# Altium footprint library Con Docking Station.PcbLib: 2 footprints
Each footprint in its own frame and in the unit in brackets; x right, y up, seen from the top. Pads: shape width x height; smd on the part's side, far side on the other; paste and mask are expansions set on the pad; w line width, h text height; cw(c..) or ccw(c..) is an arc to the next point about the centre after c.
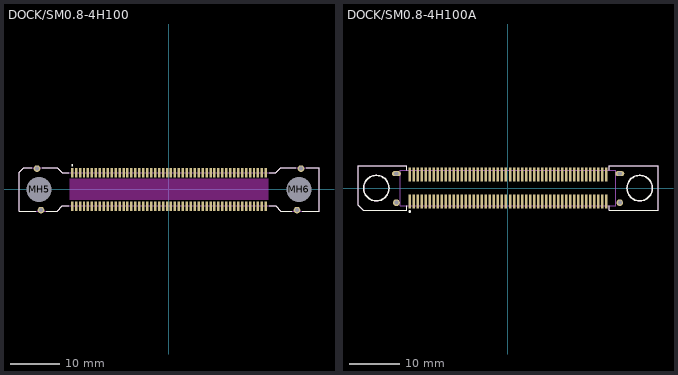
[diagram p0: the footprints below, top view; thin cyan lines are the x and y axes]

## DOCK/SM0.8-4H100 [mm] "Connector; Docking Station, Receptacle; 100 Position; Vertical"
height 3.6
pads (106):
  rect 0.5x1.9 smd: 1(-19.6,3.4) 2(-19.6,-3.4) 3(-18.8,3.4) 4(-18.8,-3.4) 5(-18,3.4) 6(-18,-3.4) 7(-17.2,3.4) 8(-17.2,-3.4) 9(-16.4,3.4) 10(-16.4,-3.4) 11(-15.6,3.4) 12(-15.6,-3.4) 13(-14.8,3.4) 14(-14.8,-3.4) 15(-14,3.4) 16(-14,-3.4) 17(-13.2,3.4) 18(-13.2,-3.4) 19(-12.4,3.4) 20(-12.4,-3.4) 21(-11.6,3.4) 22(-11.6,-3.4) 23(-10.8,3.4) 24(-10.8,-3.4) 25(-10,3.4) 26(-10,-3.4) 27(-9.2,3.4) 28(-9.2,-3.4) 29(-8.4,3.4) 30(-8.4,-3.4) 31(-7.6,3.4) 32(-7.6,-3.4) 33(-6.8,3.4) 34(-6.8,-3.4) 35(-6,3.4) 36(-6,-3.4) 37(-5.2,3.4) 38(-5.2,-3.4) 39(-4.4,3.4) 40(-4.4,-3.4) 41(-3.6,3.4) 42(-3.6,-3.4) 43(-2.8,3.4) 44(-2.8,-3.4) 45(-2,3.4) 46(-2,-3.4) 47(-1.2,3.4) 48(-1.2,-3.4) 49(-0.4,3.4) 50(-0.4,-3.4) 51(0.4,3.4) 52(0.4,-3.4) 53(1.2,3.4) 54(1.2,-3.4) 55(2,3.4) 56(2,-3.4) 57(2.8,3.4) 58(2.8,-3.4) 59(3.6,3.4) 60(3.6,-3.4) 61(4.4,3.4) 62(4.4,-3.4) 63(5.2,3.4) 64(5.2,-3.4) 65(6,3.4) 66(6,-3.4) 67(6.8,3.4) 68(6.8,-3.4) 69(7.6,3.4) 70(7.6,-3.4) 71(8.4,3.4) 72(8.4,-3.4) 73(9.2,3.4) 74(9.2,-3.4) 75(10,3.4) 76(10,-3.4) 77(10.8,3.4) 78(10.8,-3.4) 79(11.6,3.4) 80(11.6,-3.4) 81(12.4,3.4) 82(12.4,-3.4) 83(13.2,3.4) 84(13.2,-3.4) 85(14,3.4) 86(14,-3.4) 87(14.8,3.4) 88(14.8,-3.4) 89(15.6,3.4) 90(15.6,-3.4) 91(16.4,3.4) 92(16.4,-3.4) 93(17.2,3.4) 94(17.2,-3.4) 95(18,3.4) 96(18,-3.4) 97(18.8,3.4) 98(18.8,-3.4) 99(19.6,3.4) 100(19.6,-3.4)
  round 1.35 hole 0.8: MH1(-26.7,4.2) MH2(-25.9,-4.2) MH3(26.7,4.2) MH4(25.9,-4.2)
  round 4.8 hole 5.1 unplated: MH5(-26.3,0) MH6(26.3,0)
Top Layer keep-out:
  rectangle: -20.15,-2.15 20.15,2.15
Top Overlay:
  circle w0.25: c-19.6,4.9 r0.125
  lines w0.2: -27.76,4.4 -29.4,4.4 -30.35,3.464 -30.35,-4.4 -26.96,-4.4 ; -25.64,4.4 -22.65,4.4 -21.6,3.35 -20.25,3.35 ; -24.84,-4.4 -22.65,-4.4 -21.6,-3.35 -20.25,-3.35 ; 20.25,-3.35 21.6,-3.35 22.65,-4.4 24.84,-4.4 ; 20.25,3.35 21.6,3.35 22.65,4.4 25.64,4.4 ; 26.96,-4.4 30.35,-4.4 30.35,4.4 27.76,4.4
Mechanical 13:
  lines w0.1: -30.35,-4.4 -30.35,3.464 -29.4,4.4 -22.65,4.4 -21.6,3.35 21.6,3.35 22.65,4.4 30.35,4.4 30.35,-4.4 22.65,-4.4 21.6,-3.35 -21.6,-3.35 -22.65,-4.4 -30.35,-4.4
3D body: height 3.6, standoff 0, extent -30.351,-4.4 30.35,4.401

## DOCK/SM0.8-4H100A [mm] "Connector; Docking Station, Plug; 100 Position; Vertical"
height 11.6
pads (104):
  rect 0.5x2.8 smd: 1(-19.6,-2.7) 2(-19.6,2.7) 3(-18.8,-2.7) 4(-18.8,2.7) 5(-18,-2.7) 6(-18,2.7) 7(-17.2,-2.7) 8(-17.2,2.7) 9(-16.4,-2.7) 10(-16.4,2.7) 11(-15.6,-2.7) 12(-15.6,2.7) 13(-14.8,-2.7) 14(-14.8,2.7) 15(-14,-2.7) 16(-14,2.7) 17(-13.2,-2.7) 18(-13.2,2.7) 19(-12.4,-2.7) 20(-12.4,2.7) 21(-11.6,-2.7) 22(-11.6,2.7) 23(-10.8,-2.7) 24(-10.8,2.7) 25(-10,-2.7) 26(-10,2.7) 27(-9.2,-2.7) 28(-9.2,2.7) 29(-8.4,-2.7) 30(-8.4,2.7) 31(-7.6,-2.7) 32(-7.6,2.7) 33(-6.8,-2.7) 34(-6.8,2.7) 35(-6,-2.7) 36(-6,2.7) 37(-5.2,-2.7) 38(-5.2,2.7) 39(-4.4,-2.7) 40(-4.4,2.7) 41(-3.6,-2.7) 42(-3.6,2.7) 43(-2.8,-2.7) 44(-2.8,2.7) 45(-2,-2.7) 46(-2,2.7) 47(-1.2,-2.7) 48(-1.2,2.7) 49(-0.4,-2.7) 50(-0.4,2.7) 51(0.4,-2.7) 52(0.4,2.7) 53(1.2,-2.7) 54(1.2,2.7) 55(2,-2.7) 56(2,2.7) 57(2.8,-2.7) 58(2.8,2.7) 59(3.6,-2.7) 60(3.6,2.7) 61(4.4,-2.7) 62(4.4,2.7) 63(5.2,-2.7) 64(5.2,2.7) 65(6,-2.7) 66(6,2.7) 67(6.8,-2.7) 68(6.8,2.7) 69(7.6,-2.7) 70(7.6,2.7) 71(8.4,-2.7) 72(8.4,2.7) 73(9.2,-2.7) 74(9.2,2.7) 75(10,-2.7) 76(10,2.7) 77(10.8,-2.7) 78(10.8,2.7) 79(11.6,-2.7) 80(11.6,2.7) 81(12.4,-2.7) 82(12.4,2.7) 83(13.2,-2.7) 84(13.2,2.7) 85(14,-2.7) 86(14,2.7) 87(14.8,-2.7) 88(14.8,2.7) 89(15.6,-2.7) 90(15.6,2.7) 91(16.4,-2.7) 92(16.4,2.7) 93(17.2,-2.7) 94(17.2,2.7) 95(18,-2.7) 96(18,2.7) 97(18.8,-2.7) 98(18.8,2.7) 99(19.6,-2.7) 100(19.6,2.7)
  round 1.35 hole 0.8: MH1(-22.283,-2.9) MH3(22.317,-2.9)
  oval 1.8x1 hole 0.6 slot 0.8 at 0 deg: MH2(-22.283,2.9) MH4(22.317,2.9)
Top Overlay:
  circle w0.254: c26.3,0 r2.55
  circle w0.254: c-26.3,0 r2.55
  circle w0.25: c-19.6,-4.65 r0.125
  lines w0.2: -20.253,-4.45 -28.9,-4.45 -29.95,-3.4 -29.95,4.45 -20.25,4.45 -20.25,3.55 ; -20.25,-4.45 -20.25,-3.55 ; 20.25,-3.55 20.25,-4.45 29.95,-4.45 29.95,4.45 20.25,4.45 20.25,3.55
Mechanical 13:
  circle w0.1: c26.3,0 r2.55
  circle w0.1: c-26.3,0 r2.55
  lines w0.1: -20.25,-3.55 20.25,-3.55 ; -20.25,-3.55 -21.5,-3.55 -21.5,3.55 -20.25,3.55 ; -20.25,-3.55 -20.25,-4.45 -28.9,-4.45 -29.95,-3.4 -29.95,4.45 -20.25,4.45 -20.25,3.55 ; -20.25,3.55 20.25,3.55 ; 20.25,-3.55 20.25,-4.45 29.95,-4.45 29.95,4.45 20.25,4.45 20.25,3.55 ; 20.25,-3.55 21.5,-3.55 21.5,3.55 20.25,3.55
3D body: height 7.63, standoff 0, extent -21.499,-3.549 21.499,3.549
3D body: height 4.15, standoff 0, extent -29.951,-4.451 -20.249,4.451
3D body: height 4.15, standoff 0, extent 20.251,-4.449 29.949,4.449
3D body: height 11.6, standoff 4.15, extent -28.862,-2.562 -23.738,2.562
3D body: height 11.6, standoff 4.15, extent 23.738,-2.562 28.862,2.562